# Altium schematic symbol library Diodes.schlib: 5 symbols
Pins are listed as number, name and electrical type; pins without a type are passive.

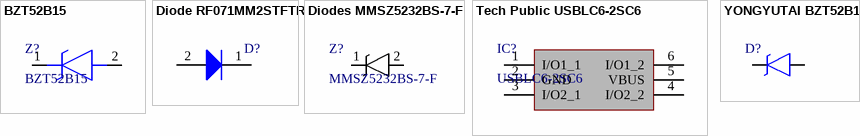
[diagram p0: symbols BZT52B15 to YONGYUTAI BZT52B15]

## BZT52B15
designator Z?
Zener Diode; Manufacturer_Name: Vishay; Manufacturer_Part_Number: BZT52B15-E3-18; Datasheet Link: https://www.vishay.com/docs/85760/bzt52.pdf; Height: 1.35mm; Mouser Part Number: 78-BZT52B15-E3-18; Mouser Price/Stock: https://www.mouser.co.uk/ProductDetail/Vishay-Semiconductors/BZT52B15-E3-18?qs=KP8Io%2FXyE5SvlbRZ336LSg%3D%3D; Arrow Part Number: BZT52B15-E3-18; Arrow Price/Stock: https://www.arrow.com/en/products/bzt52b15-e3-18/vishay?region=nac
footprint Yongyutai SOD-123
pins: 1 K, 2 A

## Diode RF071MM2STFTR
designator D?, comment RF071MM2STFTR  (value not drawn)
footprint Rohm SOD-123
pins: 1 K, 2 A

## Diodes MMSZ5232BS-7-F
designator Z?, comment MMSZ5232BS-7-F
Zener Diode; Manufacturer_Name: Diodes Incorporated; Datasheet Link: https://www.diodes.com/assets/Datasheets/ds31038.pdf; Height: 1.2mm; Manufacturer_Part_Number: MMSZ5232BS-7-F; Mouser Part Number: 621-MMSZ5232BS-F; Mouser Price/Stock: https://www.mouser.co.uk/ProductDetail/Diodes-Incorporated/MMSZ5232BS-7-F?qs=4u4ada%252BXaA6tF4wEjgPe2w%3D%3D; Arrow Part Number: MMSZ5232BS-7-F; Arrow Price/Stock: https://www.arrow.com/en/products/mmsz5232bs-7-f/diodes-incorporated?region=nac
footprint Diodes SOD-323
pins: 1 K, 2 A

## Tech Public USBLC6-2SC6
designator IC?, comment USBLC6-2SC6
Integrated Circuit; Manufacturer_Name: Tech Public; Height: 1.45mm; Manufacturer_Part_Number: USBLC6-2SC6; Mouser Part Number: 511-USBLC6-2SC6; Arrow Part Number: USBLC6-2SC6; Arrow Price/Stock: https://www.arrow.com/en/products/usblc6-2sc6/stmicroelectronics?region=nac
footprint Tech Public SOT23-6
pins: 1 I/O1_1, 2 GND, 3 I/O2_1, 4 I/O2_2, 5 VBUS, 6 I/O1_2

## YONGYUTAI BZT52B15
designator D?, comment BZT52B15V  (value not drawn)
footprint SOD-123
pins: 1 K, 2 A